# Altium schematic symbol library PCA9306D.SchLib: 1 symbol
Pins are listed as number, name and electrical type; pins without a type are passive.

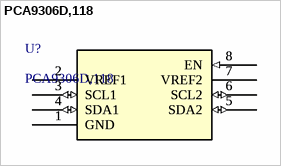
[diagram p0: symbol PCA9306D,118]

## PCA9306D,118
designator U?
No Description Available; Vendor: NXP; Built_By: EMA_Cory; SourceLibrary: Add_to_database_2021-01-28; Datasheet: https://www.nxp.com/docs/en/data-sheet/PCA9306.pdf; Manufacturer_Part_Number: PCA9306D,118; Copyright: Copyright (C) 2018 Accelerated Designs. All rights reserved; RefDes: RefDes; Type: DEV
footprint SO8_SOT96-1_NXP
pins: 1 GND, 1 GND, 2 VREF1 (power), 2 VREF1 (power), 3 SCL1 (io), 3 SCL1 (io), 4 SDA1 (io), 4 SDA1 (io), 5 SDA2 (io), 5 SDA2 (io), 6 SCL2 (io), 6 SCL2 (io), 7 VREF2 (power), 7 VREF2 (power), 8 EN (in), 8 EN (in)